# Altium integrated library Altium_WCAP-CSGP (rev19a).IntLib: 938 symbols (part 2 of 16)
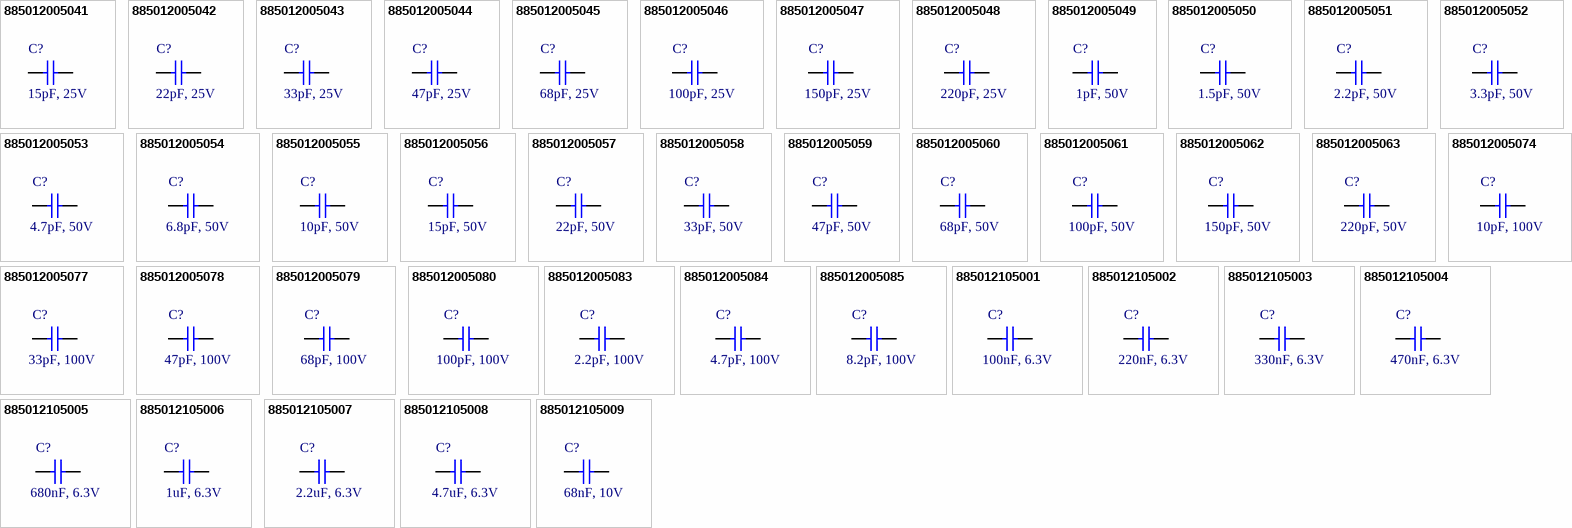
[diagram p28: symbols 885012005041 to 885012105009]

## 885012005074
designator C?, comment 10pF, 100V
WCAP-CSGP General Purpose Ceramic Capacitors, size 0402, 10pF, +/-5%, 100VDC; Part Number: 885012005074; Isolation Resistance: >=10GOhm; Ceramic Type: NP0; Dissipation Factor: Q>=400+20C; Technical Reference: NP00402100J100DFCT10000; ComponentLink1Description: Manufacturer; ComponentLink1URL: http://www.we-online.de; ComponentLink2Description: Datasheet; ComponentLink2URL: https://katalog.we-online.com/pbs/datasheet/885012005074.pdf; Operating Temperature: -55 to +125degC; Packaging: Tape and Reel; Publisher: Wurth Elektronik; Rated Voltage: 100VDC; Published Date: August 2019; Capacitance Tolerance: +/-5%; Height: 0.5mm +/-0.05mm; Mounting Technology: SMD; Size: 0402; Capacitance: 10pF
footprint WCAP-CSGP_0402
pins: 1, 2

## 885012005077
designator C?, comment 33pF, 100V
WCAP-CSGP General Purpose Ceramic Capacitors, size 0402, 33pF, +/-5%, 100VDC; Part Number: 885012005077; Isolation Resistance: >=10GOhm; Ceramic Type: NP0; Dissipation Factor: Q>=1000; Technical Reference: NP00402330J100DFCT10000; ComponentLink1Description: Manufacturer; ComponentLink1URL: http://www.we-online.de; ComponentLink2Description: Datasheet; ComponentLink2URL: https://katalog.we-online.com/pbs/datasheet/885012005077.pdf; Operating Temperature: -55 to +125degC; Packaging: Tape and Reel; Publisher: Wurth Elektronik; Rated Voltage: 100VDC; Published Date: August 2019; Capacitance Tolerance: +/-5%; Height: 0.5mm +/-0.05mm; Mounting Technology: SMD; Size: 0402; Capacitance: 33pF
footprint WCAP-CSGP_0402
pins: 1, 2

## 885012005078
designator C?, comment 47pF, 100V
WCAP-CSGP General Purpose Ceramic Capacitors, size 0402, 47pF, +/-5%, 100VDC; Part Number: 885012005078; Isolation Resistance: >=10GOhm; Ceramic Type: NP0; Dissipation Factor: Q>=1000; Technical Reference: NP00402470J100DFCT10000; ComponentLink1Description: Manufacturer; ComponentLink1URL: http://www.we-online.de; ComponentLink2Description: Datasheet; ComponentLink2URL: https://katalog.we-online.com/pbs/datasheet/885012005078.pdf; Operating Temperature: -55 to +125degC; Packaging: Tape and Reel; Publisher: Wurth Elektronik; Rated Voltage: 100VDC; Published Date: August 2019; Capacitance Tolerance: +/-5%; Height: 0.5mm +/-0.05mm; Mounting Technology: SMD; Size: 0402; Capacitance: 47pF
footprint WCAP-CSGP_0402
pins: 1, 2

## 885012005079
designator C?, comment 68pF, 100V
WCAP-CSGP General Purpose Ceramic Capacitors, size 0402, 68pF, +/-5%, 100VDC; Part Number: 885012005079; Isolation Resistance: >=10GOhm; Ceramic Type: NP0; Dissipation Factor: Q>=1000; Technical Reference: NP00402680J100DFCT10000; ComponentLink1Description: Manufacturer; ComponentLink1URL: http://www.we-online.de; ComponentLink2Description: Datasheet; ComponentLink2URL: https://katalog.we-online.com/pbs/datasheet/885012005079.pdf; Operating Temperature: -55 to +125degC; Packaging: Tape and Reel; Publisher: Wurth Elektronik; Rated Voltage: 100VDC; Published Date: August 2019; Capacitance Tolerance: +/-5%; Height: 0.5mm +/-0.05mm; Mounting Technology: SMD; Size: 0402; Capacitance: 68pF
footprint WCAP-CSGP_0402
pins: 1, 2

## 885012005080
designator C?, comment 100pF, 100V
WCAP-CSGP General Purpose Ceramic Capacitors, size 0402, 100pF, +/-5%, 100VDC; Part Number: 885012005080; Isolation Resistance: >=10GOhm; Ceramic Type: NP0; Dissipation Factor: Q>=1000; Technical Reference: NP00402101J100DFCT10000; ComponentLink1Description: Manufacturer; ComponentLink1URL: http://www.we-online.de; ComponentLink2Description: Datasheet; ComponentLink2URL: https://katalog.we-online.com/pbs/datasheet/885012005080.pdf; Operating Temperature: -55 to +125degC; Packaging: Tape and Reel; Publisher: Wurth Elektronik; Rated Voltage: 100VDC; Published Date: August 2019; Capacitance Tolerance: +/-5%; Height: 0.5mm +/-0.05mm; Mounting Technology: SMD; Size: 0402; Capacitance: 100pF
footprint WCAP-CSGP_0402
pins: 1, 2

## 885012005083
designator C?, comment 2.2pF, 100V
WCAP-CSGP General Purpose Ceramic Capacitors, size 0402, 2.2pF, +/-0.25pF, 100VDC; Part Number: 885012005083; Isolation Resistance: >=10GOhm; Ceramic Type: NP0; Dissipation Factor: Q>=400+20C; Technical Reference: NP004022R2C100DFCT10000; ComponentLink1Description: Manufacturer; ComponentLink1URL: http://www.we-online.de; ComponentLink2Description: Datasheet; ComponentLink2URL: https://katalog.we-online.com/pbs/datasheet/885012005083.pdf; Operating Temperature: -55 to +125degC; Packaging: Tape and Reel; Publisher: Wurth Elektronik; Rated Voltage: 100VDC; Published Date: August 2019; Capacitance Tolerance: +/-0.25pF; Height: 0.5mm +/-0.05mm; Mounting Technology: SMD; Size: 0402; Capacitance: 2.2pF
footprint WCAP-CSGP_0402
pins: 1, 2

## 885012005084
designator C?, comment 4.7pF, 100V
WCAP-CSGP General Purpose Ceramic Capacitors, size 0402, 4.7pF, +/-0.25pF, 100VDC; Part Number: 885012005084; Isolation Resistance: >=10GOhm; Ceramic Type: NP0; Dissipation Factor: Q>=400+20C; Technical Reference: NP004024R7C100DFCT10000; ComponentLink1Description: Manufacturer; ComponentLink1URL: http://www.we-online.de; ComponentLink2Description: Datasheet; ComponentLink2URL: https://katalog.we-online.com/pbs/datasheet/885012005084.pdf; Operating Temperature: -55 to +125degC; Packaging: Tape and Reel; Publisher: Wurth Elektronik; Rated Voltage: 100VDC; Published Date: August 2019; Capacitance Tolerance: +/-0.25pF; Height: 0.5mm +/-0.05mm; Mounting Technology: SMD; Size: 0402; Capacitance: 4.7pF
footprint WCAP-CSGP_0402
pins: 1, 2

## 885012005085
designator C?, comment 8.2pF, 100V
WCAP-CSGP General Purpose Ceramic Capacitors, size 0402, 8.2pF, +/-0.5pF, 100VDC; Part Number: 885012005085; Isolation Resistance: >=10GOhm; Ceramic Type: NP0; Dissipation Factor: Q>=400+20C; Technical Reference: NP004028R2D100DFCT10000; ComponentLink1Description: Manufacturer; ComponentLink1URL: http://www.we-online.de; ComponentLink2Description: Datasheet; ComponentLink2URL: https://katalog.we-online.com/pbs/datasheet/885012005085.pdf; Operating Temperature: -55 to +125degC; Packaging: Tape and Reel; Publisher: Wurth Elektronik; Rated Voltage: 100VDC; Published Date: August 2019; Capacitance Tolerance: +/-0.5pF; Height: 0.5mm +/-0.05mm; Mounting Technology: SMD; Size: 0402; Capacitance: 8.2pF
footprint WCAP-CSGP_0402
pins: 1, 2

## 885012105001
designator C?, comment 100nF, 6.3V
WCAP-CSGP General Purpose Ceramic Capacitors, size 0402, 100nF, +/-20%, 6.3VDC; Part Number: 885012105001; Isolation Resistance: >=1GOhm; Ceramic Type: X5R; Technical Reference: X5R0402104M6R3DFCT10000; ComponentLink1Description: Manufacturer; ComponentLink1URL: http://www.we-online.de; ComponentLink2Description: Datasheet; ComponentLink2URL: https://katalog.we-online.com/pbs/datasheet/885012105001.pdf; Operating Temperature: -55 to +85degC; Packaging: Tape and Reel; Publisher: Wurth Elektronik; Rated Voltage: 6.3VDC; Published Date: August 2019; Capacitance Tolerance: +/-20%; Dissipation Factor: =<10%; Height: 0.5mm +/-0.05mm; Mounting Technology: SMD; Size: 0402; Capacitance: 100nF
footprint WCAP-CSGP_0402
pins: 1, 2

## 885012105002
designator C?, comment 220nF, 6.3V
WCAP-CSGP General Purpose Ceramic Capacitors, size 0402, 220nF, +/-20%, 6.3VDC; Part Number: 885012105002; Isolation Resistance: >=0.5GOhm; Ceramic Type: X5R; Technical Reference: X5R0402224M6R3DFCT10000; ComponentLink1Description: Manufacturer; ComponentLink1URL: http://www.we-online.de; ComponentLink2Description: Datasheet; ComponentLink2URL: https://katalog.we-online.com/pbs/datasheet/885012105002.pdf; Operating Temperature: -55 to +85degC; Packaging: Tape and Reel; Publisher: Wurth Elektronik; Rated Voltage: 6.3VDC; Published Date: August 2019; Capacitance Tolerance: +/-20%; Dissipation Factor: =<10%; Height: 0.5mm +/-0.05mm; Mounting Technology: SMD; Size: 0402; Capacitance: 220nF
footprint WCAP-CSGP_0402
pins: 1, 2

## 885012105003
designator C?, comment 330nF, 6.3V
WCAP-CSGP General Purpose Ceramic Capacitors, size 0402, 330nF, +/-20%, 6.3VDC; Part Number: 885012105003; Isolation Resistance: >=0.3GOhm; Ceramic Type: X5R; Technical Reference: X5R0402334M6R3DFCT10000; ComponentLink1Description: Manufacturer; ComponentLink1URL: http://www.we-online.de; ComponentLink2Description: Datasheet; ComponentLink2URL: https://katalog.we-online.com/pbs/datasheet/885012105003.pdf; Operating Temperature: -55 to +85degC; Packaging: Tape and Reel; Publisher: Wurth Elektronik; Rated Voltage: 6.3VDC; Published Date: August 2019; Capacitance Tolerance: +/-20%; Dissipation Factor: =<10%; Height: 0.5mm +/-0.05mm; Mounting Technology: SMD; Size: 0402; Capacitance: 330nF
footprint WCAP-CSGP_0402
pins: 1, 2

## 885012105004
designator C?, comment 470nF, 6.3V
WCAP-CSGP General Purpose Ceramic Capacitors, size 0402, 470nF, +/-20%, 6.3VDC; Part Number: 885012105004; Isolation Resistance: >=0.2GOhm; Ceramic Type: X5R; Technical Reference: X5R0402474M6R3DFCT10000; ComponentLink1Description: Manufacturer; ComponentLink1URL: http://www.we-online.de; ComponentLink2Description: Datasheet; ComponentLink2URL: https://katalog.we-online.com/pbs/datasheet/885012105004.pdf; Operating Temperature: -55 to +85degC; Packaging: Tape and Reel; Publisher: Wurth Elektronik; Rated Voltage: 6.3VDC; Published Date: August 2019; Capacitance Tolerance: +/-20%; Dissipation Factor: =<10%; Height: 0.5mm +/-0.05mm; Mounting Technology: SMD; Size: 0402; Capacitance: 470nF
footprint WCAP-CSGP_0402
pins: 1, 2

## 885012105005
designator C?, comment 680nF, 6.3V
WCAP-CSGP General Purpose Ceramic Capacitors, size 0402, 680nF, +/-20%, 6.3VDC; Part Number: 885012105005; Isolation Resistance: >=0.2GOhm; Ceramic Type: X5R; Technical Reference: X5R0402684M6R3DFCT10000; ComponentLink1Description: Manufacturer; ComponentLink1URL: http://www.we-online.de; ComponentLink2Description: Datasheet; ComponentLink2URL: https://katalog.we-online.com/pbs/datasheet/885012105005.pdf; Operating Temperature: -55 to +85degC; Packaging: Tape and Reel; Publisher: Wurth Elektronik; Rated Voltage: 6.3VDC; Published Date: August 2019; Capacitance Tolerance: +/-20%; Dissipation Factor: =<10%; Height: 0.5mm +/-0.05mm; Mounting Technology: SMD; Size: 0402; Capacitance: 680nF
footprint WCAP-CSGP_0402
pins: 1, 2

## 885012105006
designator C?, comment 1uF, 6.3V
WCAP-CSGP General Purpose Ceramic Capacitors, size 0402, 1uF, +/-20%, 6.3VDC; Part Number: 885012105006; Isolation Resistance: >=0.1GOhm; Ceramic Type: X5R; Technical Reference: X5R0402105M6R3DFCT10000; ComponentLink1Description: Manufacturer; ComponentLink1URL: http://www.we-online.de; ComponentLink2Description: Datasheet; ComponentLink2URL: https://katalog.we-online.com/pbs/datasheet/885012105006.pdf; Operating Temperature: -55 to +85degC; Packaging: Tape and Reel; Publisher: Wurth Elektronik; Rated Voltage: 6.3VDC; Published Date: August 2019; Capacitance Tolerance: +/-20%; Dissipation Factor: =<15%; Height: 0.5mm +/-0.05mm; Mounting Technology: SMD; Size: 0402; Capacitance: 1uF
footprint WCAP-CSGP_0402
pins: 1, 2

## 885012105007
designator C?, comment 2.2uF, 6.3V
WCAP-CSGP General Purpose Ceramic Capacitors, size 0402, 2.2uF, +/-20%, 6.3VDC; Part Number: 885012105007; Isolation Resistance: >=0.05GOhm; Ceramic Type: X5R; Technical Reference: X5R0402225M6R3DFCT10000; ComponentLink1Description: Manufacturer; ComponentLink1URL: http://www.we-online.de; ComponentLink2Description: Datasheet; ComponentLink2URL: https://katalog.we-online.com/pbs/datasheet/885012105007.pdf; Operating Temperature: -55 to +85degC; Packaging: Tape and Reel; Publisher: Wurth Elektronik; Rated Voltage: 6.3VDC; Published Date: August 2019; Capacitance Tolerance: +/-20%; Dissipation Factor: =<10%; Height: 0.5mm +/-0.05mm; Mounting Technology: SMD; Size: 0402; Capacitance: 2.2uF
footprint WCAP-CSGP_0402
pins: 1, 2

## 885012105008
designator C?, comment 4.7uF, 6.3V
WCAP-CSGP General Purpose Ceramic Capacitors, size 0402, 4.7uF, +/-20%, 6.3VDC; Part Number: 885012105008; Isolation Resistance: >=0.02GOhm; Ceramic Type: X5R; Technical Reference: X5R0402475M6R3DFCT10000; ComponentLink1Description: Manufacturer; ComponentLink1URL: http://www.we-online.de; ComponentLink2Description: Datasheet; ComponentLink2URL: https://katalog.we-online.com/pbs/datasheet/885012105008.pdf; Operating Temperature: -55 to +85degC; Packaging: Tape and Reel; Publisher: Wurth Elektronik; Rated Voltage: 6.3VDC; Published Date: August 2019; Capacitance Tolerance: +/-20%; Dissipation Factor: =<10%; Height: 0.5mm +0.15/-0.05mm; Mounting Technology: SMD; Size: 0402; Capacitance: 4.7uF
footprint WCAP-CSGP_0402
pins: 1, 2

## 885012105009
designator C?, comment 68nF, 10V
WCAP-CSGP General Purpose Ceramic Capacitors, size 0402, 68nF, +/-20%, 10VDC; Part Number: 885012105009; Isolation Resistance: >=7.4GOhm; Ceramic Type: X5R; Technical Reference: X5R0402683M010DFCT10000; ComponentLink1Description: Manufacturer; ComponentLink1URL: http://www.we-online.de; ComponentLink2Description: Datasheet; ComponentLink2URL: https://katalog.we-online.com/pbs/datasheet/885012105009.pdf; Operating Temperature: -55 to +85degC; Packaging: Tape and Reel; Publisher: Wurth Elektronik; Rated Voltage: 10VDC; Published Date: August 2019; Capacitance Tolerance: +/-20%; Dissipation Factor: =<5%; Height: 0.5mm +/-0.05mm; Mounting Technology: SMD; Size: 0402; Capacitance: 68nF
footprint WCAP-CSGP_0402
pins: 1, 2

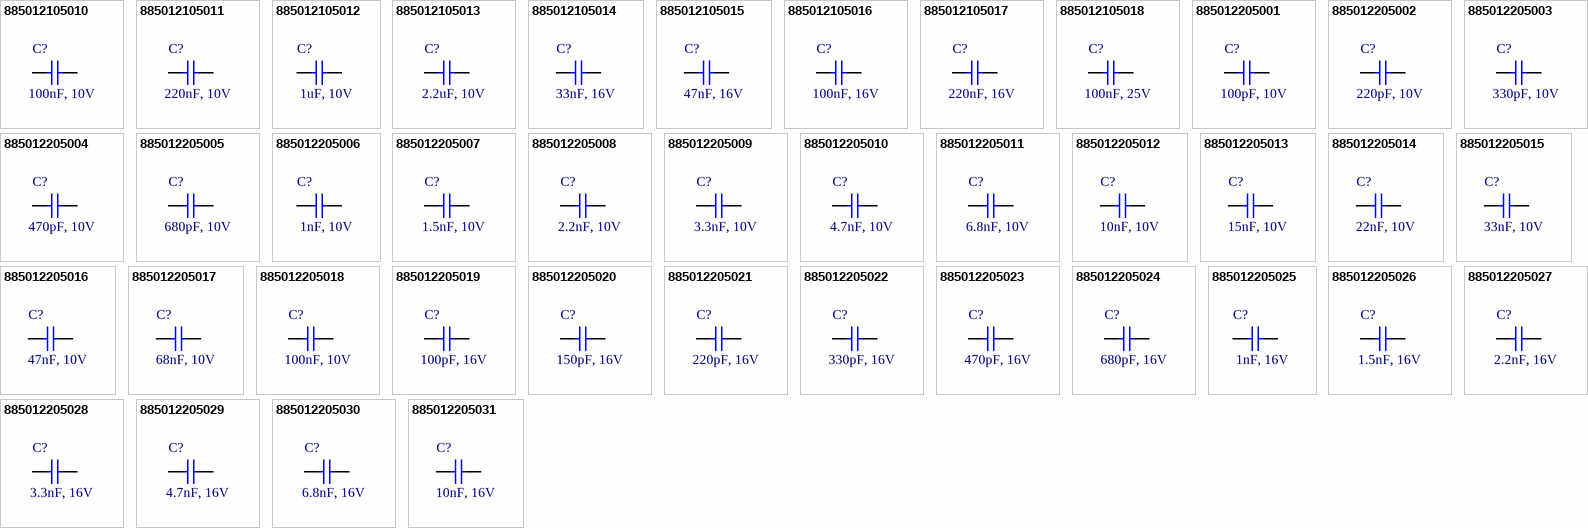
[diagram p2: symbols 885012105010 to 885012205031]

## 885012105010
designator C?, comment 100nF, 10V
WCAP-CSGP General Purpose Ceramic Capacitors, size 0402, 100nF, +/-20%, 10VDC; Part Number: 885012105010; Isolation Resistance: >=5GOhm; Ceramic Type: X5R; Technical Reference: X5R0402104M010DFCT10000; ComponentLink1Description: Manufacturer; ComponentLink1URL: http://www.we-online.de; ComponentLink2Description: Datasheet; ComponentLink2URL: https://katalog.we-online.com/pbs/datasheet/885012105010.pdf; Operating Temperature: -55 to +85degC; Packaging: Tape and Reel; Publisher: Wurth Elektronik; Rated Voltage: 10VDC; Published Date: August 2019; Capacitance Tolerance: +/-20%; Dissipation Factor: =<5%; Height: 0.5mm +/-0.05mm; Mounting Technology: SMD; Size: 0402; Capacitance: 100nF
footprint WCAP-CSGP_0402
pins: 1, 2

## 885012105011
designator C?, comment 220nF, 10V
WCAP-CSGP General Purpose Ceramic Capacitors, size 0402, 220nF, +/-20%, 10VDC; Part Number: 885012105011; Isolation Resistance: >=2.3GOhm; Ceramic Type: X5R; Technical Reference: X5R0402224M010DFCT10000; ComponentLink1Description: Manufacturer; ComponentLink1URL: http://www.we-online.de; ComponentLink2Description: Datasheet; ComponentLink2URL: https://katalog.we-online.com/pbs/datasheet/885012105011.pdf; Operating Temperature: -55 to +85degC; Packaging: Tape and Reel; Publisher: Wurth Elektronik; Rated Voltage: 10VDC; Published Date: August 2019; Capacitance Tolerance: +/-20%; Dissipation Factor: =<5%; Height: 0.5mm +/-0.05mm; Mounting Technology: SMD; Size: 0402; Capacitance: 220nF
footprint WCAP-CSGP_0402
pins: 1, 2

## 885012105012
designator C?, comment 1uF, 10V
WCAP-CSGP General Purpose Ceramic Capacitors, size 0402, 1uF, +/-20%, 10VDC; Part Number: 885012105012; Isolation Resistance: >=0.05GOhm; Ceramic Type: X5R; Technical Reference: X5R0402105M010DFCT10000; ComponentLink1Description: Manufacturer; ComponentLink1URL: http://www.we-online.de; ComponentLink2Description: Datasheet; ComponentLink2URL: https://katalog.we-online.com/pbs/datasheet/885012105012.pdf; Operating Temperature: -55 to +85degC; Packaging: Tape and Reel; Publisher: Wurth Elektronik; Rated Voltage: 10VDC; Published Date: August 2019; Capacitance Tolerance: +/-20%; Dissipation Factor: =<15%; Height: 0.5mm +/-0.05mm; Mounting Technology: SMD; Size: 0402; Capacitance: 1uF
footprint WCAP-CSGP_0402
pins: 1, 2

## 885012105013
designator C?, comment 2.2uF, 10V
WCAP-CSGP General Purpose Ceramic Capacitors, size 0402, 2.2uF, +/-20%, 10VDC; Part Number: 885012105013; Isolation Resistance: >=0.05GOhm; Ceramic Type: X5R; Technical Reference: X5R0402225M010DFCT10000; ComponentLink1Description: Manufacturer; ComponentLink1URL: http://www.we-online.de; ComponentLink2Description: Datasheet; ComponentLink2URL: https://katalog.we-online.com/pbs/datasheet/885012105013.pdf; Operating Temperature: -55 to +85degC; Packaging: Tape and Reel; Publisher: Wurth Elektronik; Rated Voltage: 10VDC; Published Date: August 2019; Capacitance Tolerance: +/-20%; Dissipation Factor: =<10%; Height: 0.5mm +/-0.05mm; Mounting Technology: SMD; Size: 0402; Capacitance: 2.2uF
footprint WCAP-CSGP_0402
pins: 1, 2

## 885012105014
designator C?, comment 33nF, 16V
WCAP-CSGP General Purpose Ceramic Capacitors, size 0402, 33nF, +/-20%, 16VDC; Part Number: 885012105014; Isolation Resistance: >=10GOhm; Ceramic Type: X5R; Technical Reference: X5R0402333M016DFCT10000; ComponentLink1Description: Manufacturer; ComponentLink1URL: http://www.we-online.de; ComponentLink2Description: Datasheet; ComponentLink2URL: https://katalog.we-online.com/pbs/datasheet/885012105014.pdf; Operating Temperature: -55 to +85degC; Packaging: Tape and Reel; Publisher: Wurth Elektronik; Rated Voltage: 16VDC; Published Date: August 2019; Capacitance Tolerance: +/-20%; Dissipation Factor: =<5%; Height: 0.5mm +/-0.05mm; Mounting Technology: SMD; Size: 0402; Capacitance: 33nF
footprint WCAP-CSGP_0402
pins: 1, 2

## 885012105015
designator C?, comment 47nF, 16V
WCAP-CSGP General Purpose Ceramic Capacitors, size 0402, 47nF, +/-20%, 16VDC; Part Number: 885012105015; Isolation Resistance: >=10GOhm; Ceramic Type: X5R; Technical Reference: X5R0402473M016DFCT10000; ComponentLink1Description: Manufacturer; ComponentLink1URL: http://www.we-online.de; ComponentLink2Description: Datasheet; ComponentLink2URL: https://katalog.we-online.com/pbs/datasheet/885012105015.pdf; Operating Temperature: -55 to +85degC; Packaging: Tape and Reel; Publisher: Wurth Elektronik; Rated Voltage: 16VDC; Published Date: August 2019; Capacitance Tolerance: +/-20%; Dissipation Factor: =<5%; Height: 0.5mm +/-0.05mm; Mounting Technology: SMD; Size: 0402; Capacitance: 47nF
footprint WCAP-CSGP_0402
pins: 1, 2

## 885012105016
designator C?, comment 100nF, 16V
WCAP-CSGP General Purpose Ceramic Capacitors, size 0402, 100nF, +/-20%, 16VDC; Part Number: 885012105016; Isolation Resistance: >=5GOhm; Ceramic Type: X5R; Technical Reference: X5R0402104M016DFCT10000; ComponentLink1Description: Manufacturer; ComponentLink1URL: http://www.we-online.de; ComponentLink2Description: Datasheet; ComponentLink2URL: https://katalog.we-online.com/pbs/datasheet/885012105016.pdf; Operating Temperature: -55 to +85degC; Packaging: Tape and Reel; Publisher: Wurth Elektronik; Rated Voltage: 16VDC; Published Date: August 2019; Capacitance Tolerance: +/-20%; Dissipation Factor: =<5%; Height: 0.5mm +/-0.05mm; Mounting Technology: SMD; Size: 0402; Capacitance: 100nF
footprint WCAP-CSGP_0402
pins: 1, 2

## 885012105017
designator C?, comment 220nF, 16V
WCAP-CSGP General Purpose Ceramic Capacitors, size 0402, 220nF, +/-20%, 16VDC; Part Number: 885012105017; Isolation Resistance: >=0.5GOhm; Ceramic Type: X5R; Technical Reference: X5R0402224M016DFCT10000; ComponentLink1Description: Manufacturer; ComponentLink1URL: http://www.we-online.de; ComponentLink2Description: Datasheet; ComponentLink2URL: https://katalog.we-online.com/pbs/datasheet/885012105017.pdf; Operating Temperature: -55 to +85degC; Packaging: Tape and Reel; Publisher: Wurth Elektronik; Rated Voltage: 16VDC; Published Date: August 2019; Capacitance Tolerance: +/-20%; Dissipation Factor: =<10%; Height: 0.5mm +/-0.05mm; Mounting Technology: SMD; Size: 0402; Capacitance: 220nF
footprint WCAP-CSGP_0402
pins: 1, 2

## 885012105018
designator C?, comment 100nF, 25V
WCAP-CSGP General Purpose Ceramic Capacitors, size 0402, 100nF, +/-20%, 25VDC; Part Number: 885012105018; Isolation Resistance: >=5GOhm; Ceramic Type: X5R; Technical Reference: X5R0402104M025DFCT10000; ComponentLink1Description: Manufacturer; ComponentLink1URL: http://www.we-online.de; ComponentLink2Description: Datasheet; ComponentLink2URL: https://katalog.we-online.com/pbs/datasheet/885012105018.pdf; Operating Temperature: -55 to +85degC; Packaging: Tape and Reel; Publisher: Wurth Elektronik; Rated Voltage: 25VDC; Published Date: August 2019; Capacitance Tolerance: +/-20%; Dissipation Factor: =<10%; Height: 0.5mm +/-0.05mm; Mounting Technology: SMD; Size: 0402; Capacitance: 100nF
footprint WCAP-CSGP_0402
pins: 1, 2

## 885012205001
designator C?, comment 100pF, 10V
WCAP-CSGP General Purpose Ceramic Capacitors, size 0402, 100pF, +/-10%, 10VDC; Part Number: 885012205001; Isolation Resistance: >=10GOhm; Ceramic Type: X7R; Technical Reference: X7R0402101K010DFCT10000; ComponentLink1Description: Manufacturer; ComponentLink1URL: http://www.we-online.de; ComponentLink2Description: Datasheet; ComponentLink2URL: https://katalog.we-online.com/pbs/datasheet/885012205001.pdf; Operating Temperature: -55 to +125degC; Packaging: Tape and Reel; Publisher: Wurth Elektronik; Rated Voltage: 10VDC; Published Date: August 2019; Capacitance Tolerance: +/-10%; Dissipation Factor: =<5%; Height: 0.5mm +/-0.05mm; Mounting Technology: SMD; Size: 0402; Capacitance: 100pF
footprint WCAP-CSGP_0402
pins: 1, 2

## 885012205002
designator C?, comment 220pF, 10V
WCAP-CSGP General Purpose Ceramic Capacitors, size 0402, 220pF, +/-10%, 10VDC; Part Number: 885012205002; Isolation Resistance: >=10GOhm; Ceramic Type: X7R; Technical Reference: X7R0402221K010DFCT10000; ComponentLink1Description: Manufacturer; ComponentLink1URL: http://www.we-online.de; ComponentLink2Description: Datasheet; ComponentLink2URL: https://katalog.we-online.com/pbs/datasheet/885012205002.pdf; Operating Temperature: -55 to +125degC; Packaging: Tape and Reel; Publisher: Wurth Elektronik; Rated Voltage: 10VDC; Published Date: August 2019; Capacitance Tolerance: +/-10%; Dissipation Factor: =<5%; Height: 0.5mm +/-0.05mm; Mounting Technology: SMD; Size: 0402; Capacitance: 220pF
footprint WCAP-CSGP_0402
pins: 1, 2

## 885012205003
designator C?, comment 330pF, 10V
WCAP-CSGP General Purpose Ceramic Capacitors, size 0402, 330pF, +/-10%, 10VDC; Part Number: 885012205003; Isolation Resistance: >=10GOhm; Ceramic Type: X7R; Technical Reference: X7R0402331K010DFCT10000; ComponentLink1Description: Manufacturer; ComponentLink1URL: http://www.we-online.de; ComponentLink2Description: Datasheet; ComponentLink2URL: https://katalog.we-online.com/pbs/datasheet/885012205003.pdf; Operating Temperature: -55 to +125degC; Packaging: Tape and Reel; Publisher: Wurth Elektronik; Rated Voltage: 10VDC; Published Date: August 2019; Capacitance Tolerance: +/-10%; Dissipation Factor: =<5%; Height: 0.5mm +/-0.05mm; Mounting Technology: SMD; Size: 0402; Capacitance: 330pF
footprint WCAP-CSGP_0402
pins: 1, 2

## 885012205004
designator C?, comment 470pF, 10V
WCAP-CSGP General Purpose Ceramic Capacitors, size 0402, 470pF, +/-10%, 10VDC; Part Number: 885012205004; Isolation Resistance: >=10GOhm; Ceramic Type: X7R; Technical Reference: X7R0402471K010DFCT10000; ComponentLink1Description: Manufacturer; ComponentLink1URL: http://www.we-online.de; ComponentLink2Description: Datasheet; ComponentLink2URL: https://katalog.we-online.com/pbs/datasheet/885012205004.pdf; Operating Temperature: -55 to +125degC; Packaging: Tape and Reel; Publisher: Wurth Elektronik; Rated Voltage: 10VDC; Published Date: August 2019; Capacitance Tolerance: +/-10%; Dissipation Factor: =<5%; Height: 0.5mm +/-0.05mm; Mounting Technology: SMD; Size: 0402; Capacitance: 470pF
footprint WCAP-CSGP_0402
pins: 1, 2

## 885012205005
designator C?, comment 680pF, 10V
WCAP-CSGP General Purpose Ceramic Capacitors, size 0402, 680pF, +/-10%, 10VDC; Part Number: 885012205005; Isolation Resistance: >=10GOhm; Ceramic Type: X7R; Technical Reference: X7R0402681K010DFCT10000; ComponentLink1Description: Manufacturer; ComponentLink1URL: http://www.we-online.de; ComponentLink2Description: Datasheet; ComponentLink2URL: https://katalog.we-online.com/pbs/datasheet/885012205005.pdf; Operating Temperature: -55 to +125degC; Packaging: Tape and Reel; Publisher: Wurth Elektronik; Rated Voltage: 10VDC; Published Date: August 2019; Capacitance Tolerance: +/-10%; Dissipation Factor: =<5%; Height: 0.5mm +/-0.05mm; Mounting Technology: SMD; Size: 0402; Capacitance: 680pF
footprint WCAP-CSGP_0402
pins: 1, 2

## 885012205006
designator C?, comment 1nF, 10V
WCAP-CSGP General Purpose Ceramic Capacitors, size 0402, 1nF, +/-10%, 10VDC; Part Number: 885012205006; Isolation Resistance: >=10GOhm; Ceramic Type: X7R; Technical Reference: X7R0402102K010DFCT10000; ComponentLink1Description: Manufacturer; ComponentLink1URL: http://www.we-online.de; ComponentLink2Description: Datasheet; ComponentLink2URL: https://katalog.we-online.com/pbs/datasheet/885012205006.pdf; Operating Temperature: -55 to +125degC; Packaging: Tape and Reel; Publisher: Wurth Elektronik; Rated Voltage: 10VDC; Published Date: August 2019; Capacitance Tolerance: +/-10%; Dissipation Factor: =<5%; Height: 0.5mm +/-0.05mm; Mounting Technology: SMD; Size: 0402; Capacitance: 1nF
footprint WCAP-CSGP_0402
pins: 1, 2

## 885012205007
designator C?, comment 1.5nF, 10V
WCAP-CSGP General Purpose Ceramic Capacitors, size 0402, 1.5nF, +/-10%, 10VDC; Part Number: 885012205007; Isolation Resistance: >=10GOhm; Ceramic Type: X7R; Technical Reference: X7R0402152K010DFCT10000; ComponentLink1Description: Manufacturer; ComponentLink1URL: http://www.we-online.de; ComponentLink2Description: Datasheet; ComponentLink2URL: https://katalog.we-online.com/pbs/datasheet/885012205007.pdf; Operating Temperature: -55 to +125degC; Packaging: Tape and Reel; Publisher: Wurth Elektronik; Rated Voltage: 10VDC; Published Date: August 2019; Capacitance Tolerance: +/-10%; Dissipation Factor: =<5%; Height: 0.5mm +/-0.05mm; Mounting Technology: SMD; Size: 0402; Capacitance: 1.5nF
footprint WCAP-CSGP_0402
pins: 1, 2

## 885012205008
designator C?, comment 2.2nF, 10V
WCAP-CSGP General Purpose Ceramic Capacitors, size 0402, 2.2nF, +/-10%, 10VDC; Part Number: 885012205008; Isolation Resistance: >=10GOhm; Ceramic Type: X7R; Technical Reference: X7R0402222K010DFCT10000; ComponentLink1Description: Manufacturer; ComponentLink1URL: http://www.we-online.de; ComponentLink2Description: Datasheet; ComponentLink2URL: https://katalog.we-online.com/pbs/datasheet/885012205008.pdf; Operating Temperature: -55 to +125degC; Packaging: Tape and Reel; Publisher: Wurth Elektronik; Rated Voltage: 10VDC; Published Date: August 2019; Capacitance Tolerance: +/-10%; Dissipation Factor: =<5%; Height: 0.5mm +/-0.05mm; Mounting Technology: SMD; Size: 0402; Capacitance: 2.2nF
footprint WCAP-CSGP_0402
pins: 1, 2

## 885012205009
designator C?, comment 3.3nF, 10V
WCAP-CSGP General Purpose Ceramic Capacitors, size 0402, 3.3nF, +/-10%, 10VDC; Part Number: 885012205009; Isolation Resistance: >=10GOhm; Ceramic Type: X7R; Technical Reference: X7R0402332K010DFCT10000; ComponentLink1Description: Manufacturer; ComponentLink1URL: http://www.we-online.de; ComponentLink2Description: Datasheet; ComponentLink2URL: https://katalog.we-online.com/pbs/datasheet/885012205009.pdf; Operating Temperature: -55 to +125degC; Packaging: Tape and Reel; Publisher: Wurth Elektronik; Rated Voltage: 10VDC; Published Date: August 2019; Capacitance Tolerance: +/-10%; Dissipation Factor: =<5%; Height: 0.5mm +/-0.05mm; Mounting Technology: SMD; Size: 0402; Capacitance: 3.3nF
footprint WCAP-CSGP_0402
pins: 1, 2

## 885012205010
designator C?, comment 4.7nF, 10V
WCAP-CSGP General Purpose Ceramic Capacitors, size 0402, 4.7nF, +/-10%, 10VDC; Part Number: 885012205010; Isolation Resistance: >=10GOhm; Ceramic Type: X7R; Technical Reference: X7R0402472K010DFCT10000; ComponentLink1Description: Manufacturer; ComponentLink1URL: http://www.we-online.de; ComponentLink2Description: Datasheet; ComponentLink2URL: https://katalog.we-online.com/pbs/datasheet/885012205010.pdf; Operating Temperature: -55 to +125degC; Packaging: Tape and Reel; Publisher: Wurth Elektronik; Rated Voltage: 10VDC; Published Date: August 2019; Capacitance Tolerance: +/-10%; Dissipation Factor: =<5%; Height: 0.5mm +/-0.05mm; Mounting Technology: SMD; Size: 0402; Capacitance: 4.7nF
footprint WCAP-CSGP_0402
pins: 1, 2

## 885012205011
designator C?, comment 6.8nF, 10V
WCAP-CSGP General Purpose Ceramic Capacitors, size 0402, 6.8nF, +/-10%, 10VDC; Part Number: 885012205011; Isolation Resistance: >=10GOhm; Ceramic Type: X7R; Technical Reference: X7R0402682K010DFCT10000; ComponentLink1Description: Manufacturer; ComponentLink1URL: http://www.we-online.de; ComponentLink2Description: Datasheet; ComponentLink2URL: https://katalog.we-online.com/pbs/datasheet/885012205011.pdf; Operating Temperature: -55 to +125degC; Packaging: Tape and Reel; Publisher: Wurth Elektronik; Rated Voltage: 10VDC; Published Date: August 2019; Capacitance Tolerance: +/-10%; Dissipation Factor: =<5%; Height: 0.5mm +/-0.05mm; Mounting Technology: SMD; Size: 0402; Capacitance: 6.8nF
footprint WCAP-CSGP_0402
pins: 1, 2

## 885012205012
designator C?, comment 10nF, 10V
WCAP-CSGP General Purpose Ceramic Capacitors, size 0402, 10nF, +/-10%, 10VDC; Part Number: 885012205012; Isolation Resistance: >=10GOhm; Ceramic Type: X7R; Technical Reference: X7R0402103K010DFCT10000; ComponentLink1Description: Manufacturer; ComponentLink1URL: http://www.we-online.de; ComponentLink2Description: Datasheet; ComponentLink2URL: https://katalog.we-online.com/pbs/datasheet/885012205012.pdf; Operating Temperature: -55 to +125degC; Packaging: Tape and Reel; Publisher: Wurth Elektronik; Rated Voltage: 10VDC; Published Date: August 2019; Capacitance Tolerance: +/-10%; Dissipation Factor: =<5%; Height: 0.5mm +/-0.05mm; Mounting Technology: SMD; Size: 0402; Capacitance: 10nF
footprint WCAP-CSGP_0402
pins: 1, 2

## 885012205013
designator C?, comment 15nF, 10V
WCAP-CSGP General Purpose Ceramic Capacitors, size 0402, 15nF, +/-10%, 10VDC; Part Number: 885012205013; Isolation Resistance: >=10GOhm; Ceramic Type: X7R; Technical Reference: X7R0402153K010DFCT10000; ComponentLink1Description: Manufacturer; ComponentLink1URL: http://www.we-online.de; ComponentLink2Description: Datasheet; ComponentLink2URL: https://katalog.we-online.com/pbs/datasheet/885012205013.pdf; Operating Temperature: -55 to +125degC; Packaging: Tape and Reel; Publisher: Wurth Elektronik; Rated Voltage: 10VDC; Published Date: August 2019; Capacitance Tolerance: +/-10%; Dissipation Factor: =<5%; Height: 0.5mm +/-0.05mm; Mounting Technology: SMD; Size: 0402; Capacitance: 15nF
footprint WCAP-CSGP_0402
pins: 1, 2

## 885012205014
designator C?, comment 22nF, 10V
WCAP-CSGP General Purpose Ceramic Capacitors, size 0402, 22nF, +/-10%, 10VDC; Part Number: 885012205014; Isolation Resistance: >=10GOhm; Ceramic Type: X7R; Technical Reference: X7R0402223K010DFCT10000; ComponentLink1Description: Manufacturer; ComponentLink1URL: http://www.we-online.de; ComponentLink2Description: Datasheet; ComponentLink2URL: https://katalog.we-online.com/pbs/datasheet/885012205014.pdf; Operating Temperature: -55 to +125degC; Packaging: Tape and Reel; Publisher: Wurth Elektronik; Rated Voltage: 10VDC; Published Date: August 2019; Capacitance Tolerance: +/-10%; Dissipation Factor: =<5%; Height: 0.5mm +/-0.05mm; Mounting Technology: SMD; Size: 0402; Capacitance: 22nF
footprint WCAP-CSGP_0402
pins: 1, 2

## 885012205015
designator C?, comment 33nF, 10V
WCAP-CSGP General Purpose Ceramic Capacitors, size 0402, 33nF, +/-10%, 10VDC; Part Number: 885012205015; Isolation Resistance: >=10GOhm; Ceramic Type: X7R; Technical Reference: X7R0402333K010DFCT10000; ComponentLink1Description: Manufacturer; ComponentLink1URL: http://www.we-online.de; ComponentLink2Description: Datasheet; ComponentLink2URL: https://katalog.we-online.com/pbs/datasheet/885012205015.pdf; Operating Temperature: -55 to +125degC; Packaging: Tape and Reel; Publisher: Wurth Elektronik; Rated Voltage: 10VDC; Published Date: August 2019; Capacitance Tolerance: +/-10%; Dissipation Factor: =<5%; Height: 0.5mm +/-0.05mm; Mounting Technology: SMD; Size: 0402; Capacitance: 33nF
footprint WCAP-CSGP_0402
pins: 1, 2

## 885012205016
designator C?, comment 47nF, 10V
WCAP-CSGP General Purpose Ceramic Capacitors, size 0402, 47nF, +/-10%, 10VDC; Part Number: 885012205016; Isolation Resistance: >=10GOhm; Ceramic Type: X7R; Technical Reference: X7R0402473K010DFCT10000; ComponentLink1Description: Manufacturer; ComponentLink1URL: http://www.we-online.de; ComponentLink2Description: Datasheet; ComponentLink2URL: https://katalog.we-online.com/pbs/datasheet/885012205016.pdf; Operating Temperature: -55 to +125degC; Packaging: Tape and Reel; Publisher: Wurth Elektronik; Rated Voltage: 10VDC; Published Date: August 2019; Capacitance Tolerance: +/-10%; Dissipation Factor: =<5%; Height: 0.5mm +/-0.05mm; Mounting Technology: SMD; Size: 0402; Capacitance: 47nF
footprint WCAP-CSGP_0402
pins: 1, 2

## 885012205017
designator C?, comment 68nF, 10V
WCAP-CSGP General Purpose Ceramic Capacitors, size 0402, 68nF, +/-10%, 10VDC; Part Number: 885012205017; Isolation Resistance: >=7.4GOhm; Ceramic Type: X7R; Technical Reference: X7R0402683K010DFCT10000; ComponentLink1Description: Manufacturer; ComponentLink1URL: http://www.we-online.de; ComponentLink2Description: Datasheet; ComponentLink2URL: https://katalog.we-online.com/pbs/datasheet/885012205017.pdf; Operating Temperature: -55 to +125degC; Packaging: Tape and Reel; Publisher: Wurth Elektronik; Rated Voltage: 10VDC; Published Date: August 2019; Capacitance Tolerance: +/-10%; Dissipation Factor: =<5%; Height: 0.5mm +/-0.05mm; Mounting Technology: SMD; Size: 0402; Capacitance: 68nF
footprint WCAP-CSGP_0402
pins: 1, 2

## 885012205018
designator C?, comment 100nF, 10V
WCAP-CSGP General Purpose Ceramic Capacitors, size 0402, 100nF, +/-10%, 10VDC; Part Number: 885012205018; Isolation Resistance: >=5GOhm; Ceramic Type: X7R; Technical Reference: X7R0402104K010DFCT10000; ComponentLink1Description: Manufacturer; ComponentLink1URL: http://www.we-online.de; ComponentLink2Description: Datasheet; ComponentLink2URL: https://katalog.we-online.com/pbs/datasheet/885012205018.pdf; Operating Temperature: -55 to +125degC; Packaging: Tape and Reel; Publisher: Wurth Elektronik; Rated Voltage: 10VDC; Published Date: August 2019; Capacitance Tolerance: +/-10%; Dissipation Factor: =<5%; Height: 0.5mm +/-0.05mm; Mounting Technology: SMD; Size: 0402; Capacitance: 100nF
footprint WCAP-CSGP_0402
pins: 1, 2

## 885012205019
designator C?, comment 100pF, 16V
WCAP-CSGP General Purpose Ceramic Capacitors, size 0402, 100pF, +/-10%, 16VDC; Part Number: 885012205019; Isolation Resistance: >=10GOhm; Ceramic Type: X7R; Technical Reference: X7R0402101K016DFCT10000; ComponentLink1Description: Manufacturer; ComponentLink1URL: http://www.we-online.de; ComponentLink2Description: Datasheet; ComponentLink2URL: https://katalog.we-online.com/pbs/datasheet/885012205019.pdf; Operating Temperature: -55 to +125degC; Packaging: Tape and Reel; Publisher: Wurth Elektronik; Rated Voltage: 16VDC; Published Date: August 2019; Capacitance Tolerance: +/-10%; Dissipation Factor: =<3.5%; Height: 0.5mm +/-0.05mm; Mounting Technology: SMD; Size: 0402; Capacitance: 100pF
footprint WCAP-CSGP_0402
pins: 1, 2

## 885012205020
designator C?, comment 150pF, 16V
WCAP-CSGP General Purpose Ceramic Capacitors, size 0402, 150pF, +/-10%, 16VDC; Part Number: 885012205020; Isolation Resistance: >=10GOhm; Ceramic Type: X7R; Technical Reference: X7R0402151K016DFCT10000; ComponentLink1Description: Manufacturer; ComponentLink1URL: http://www.we-online.de; ComponentLink2Description: Datasheet; ComponentLink2URL: https://katalog.we-online.com/pbs/datasheet/885012205020.pdf; Operating Temperature: -55 to +125degC; Packaging: Tape and Reel; Publisher: Wurth Elektronik; Rated Voltage: 16VDC; Published Date: August 2019; Capacitance Tolerance: +/-10%; Dissipation Factor: =<3.5%; Height: 0.5mm +/-0.05mm; Mounting Technology: SMD; Size: 0402; Capacitance: 150pF
footprint WCAP-CSGP_0402
pins: 1, 2

## 885012205021
designator C?, comment 220pF, 16V
WCAP-CSGP General Purpose Ceramic Capacitors, size 0402, 220pF, +/-10%, 16VDC; Part Number: 885012205021; Isolation Resistance: >=10GOhm; Ceramic Type: X7R; Technical Reference: X7R0402221K016DFCT10000; ComponentLink1Description: Manufacturer; ComponentLink1URL: http://www.we-online.de; ComponentLink2Description: Datasheet; ComponentLink2URL: https://katalog.we-online.com/pbs/datasheet/885012205021.pdf; Operating Temperature: -55 to +125degC; Packaging: Tape and Reel; Publisher: Wurth Elektronik; Rated Voltage: 16VDC; Published Date: August 2019; Capacitance Tolerance: +/-10%; Dissipation Factor: =<3.5%; Height: 0.5mm +/-0.05mm; Mounting Technology: SMD; Size: 0402; Capacitance: 220pF
footprint WCAP-CSGP_0402
pins: 1, 2

## 885012205022
designator C?, comment 330pF, 16V
WCAP-CSGP General Purpose Ceramic Capacitors, size 0402, 330pF, +/-10%, 16VDC; Part Number: 885012205022; Isolation Resistance: >=10GOhm; Ceramic Type: X7R; Technical Reference: X7R0402331K016DFCT10000; ComponentLink1Description: Manufacturer; ComponentLink1URL: http://www.we-online.de; ComponentLink2Description: Datasheet; ComponentLink2URL: https://katalog.we-online.com/pbs/datasheet/885012205022.pdf; Operating Temperature: -55 to +125degC; Packaging: Tape and Reel; Publisher: Wurth Elektronik; Rated Voltage: 16VDC; Published Date: August 2019; Capacitance Tolerance: +/-10%; Dissipation Factor: =<3.5%; Height: 0.5mm +/-0.05mm; Mounting Technology: SMD; Size: 0402; Capacitance: 330pF
footprint WCAP-CSGP_0402
pins: 1, 2

## 885012205023
designator C?, comment 470pF, 16V
WCAP-CSGP General Purpose Ceramic Capacitors, size 0402, 470pF, +/-10%, 16VDC; Part Number: 885012205023; Isolation Resistance: >=10GOhm; Ceramic Type: X7R; Technical Reference: X7R0402471K016DFCT10000; ComponentLink1Description: Manufacturer; ComponentLink1URL: http://www.we-online.de; ComponentLink2Description: Datasheet; ComponentLink2URL: https://katalog.we-online.com/pbs/datasheet/885012205023.pdf; Operating Temperature: -55 to +125degC; Packaging: Tape and Reel; Publisher: Wurth Elektronik; Rated Voltage: 16VDC; Published Date: August 2019; Capacitance Tolerance: +/-10%; Dissipation Factor: =<3.5%; Height: 0.5mm +/-0.05mm; Mounting Technology: SMD; Size: 0402; Capacitance: 470pF
footprint WCAP-CSGP_0402
pins: 1, 2

## 885012205024
designator C?, comment 680pF, 16V
WCAP-CSGP General Purpose Ceramic Capacitors, size 0402, 680pF, +/-10%, 16VDC; Part Number: 885012205024; Isolation Resistance: >=10GOhm; Ceramic Type: X7R; Technical Reference: X7R0402681K016DFCT10000; ComponentLink1Description: Manufacturer; ComponentLink1URL: http://www.we-online.de; ComponentLink2Description: Datasheet; ComponentLink2URL: https://katalog.we-online.com/pbs/datasheet/885012205024.pdf; Operating Temperature: -55 to +125degC; Packaging: Tape and Reel; Publisher: Wurth Elektronik; Rated Voltage: 16VDC; Published Date: August 2019; Capacitance Tolerance: +/-10%; Dissipation Factor: =<3.5%; Height: 0.5mm +/-0.05mm; Mounting Technology: SMD; Size: 0402; Capacitance: 680pF
footprint WCAP-CSGP_0402
pins: 1, 2

## 885012205025
designator C?, comment 1nF, 16V
WCAP-CSGP General Purpose Ceramic Capacitors, size 0402, 1nF, +/-10%, 16VDC; Part Number: 885012205025; Isolation Resistance: >=10GOhm; Ceramic Type: X7R; Technical Reference: X7R0402102K016DFCT10000; ComponentLink1Description: Manufacturer; ComponentLink1URL: http://www.we-online.de; ComponentLink2Description: Datasheet; ComponentLink2URL: https://katalog.we-online.com/pbs/datasheet/885012205025.pdf; Operating Temperature: -55 to +125degC; Packaging: Tape and Reel; Publisher: Wurth Elektronik; Rated Voltage: 16VDC; Published Date: August 2019; Capacitance Tolerance: +/-10%; Dissipation Factor: =<3.5%; Height: 0.5mm +/-0.05mm; Mounting Technology: SMD; Size: 0402; Capacitance: 1nF
footprint WCAP-CSGP_0402
pins: 1, 2

## 885012205026
designator C?, comment 1.5nF, 16V
WCAP-CSGP General Purpose Ceramic Capacitors, size 0402, 1.5nF, +/-10%, 16VDC; Part Number: 885012205026; Isolation Resistance: >=10GOhm; Ceramic Type: X7R; Technical Reference: X7R0402152K016DFCT10000; ComponentLink1Description: Manufacturer; ComponentLink1URL: http://www.we-online.de; ComponentLink2Description: Datasheet; ComponentLink2URL: https://katalog.we-online.com/pbs/datasheet/885012205026.pdf; Operating Temperature: -55 to +125degC; Packaging: Tape and Reel; Publisher: Wurth Elektronik; Rated Voltage: 16VDC; Published Date: August 2019; Capacitance Tolerance: +/-10%; Dissipation Factor: =<3.5%; Height: 0.5mm +/-0.05mm; Mounting Technology: SMD; Size: 0402; Capacitance: 1.5nF
footprint WCAP-CSGP_0402
pins: 1, 2

## 885012205027
designator C?, comment 2.2nF, 16V
WCAP-CSGP General Purpose Ceramic Capacitors, size 0402, 2.2nF, +/-10%, 16VDC; Part Number: 885012205027; Isolation Resistance: >=10GOhm; Ceramic Type: X7R; Technical Reference: X7R0402222K016DFCT10000; ComponentLink1Description: Manufacturer; ComponentLink1URL: http://www.we-online.de; ComponentLink2Description: Datasheet; ComponentLink2URL: https://katalog.we-online.com/pbs/datasheet/885012205027.pdf; Operating Temperature: -55 to +125degC; Packaging: Tape and Reel; Publisher: Wurth Elektronik; Rated Voltage: 16VDC; Published Date: August 2019; Capacitance Tolerance: +/-10%; Dissipation Factor: =<3.5%; Height: 0.5mm +/-0.05mm; Mounting Technology: SMD; Size: 0402; Capacitance: 2.2nF
footprint WCAP-CSGP_0402
pins: 1, 2

## 885012205028
designator C?, comment 3.3nF, 16V
WCAP-CSGP General Purpose Ceramic Capacitors, size 0402, 3.3nF, +/-10%, 16VDC; Part Number: 885012205028; Isolation Resistance: >=10GOhm; Ceramic Type: X7R; Technical Reference: X7R0402332K016DFCT10000; ComponentLink1Description: Manufacturer; ComponentLink1URL: http://www.we-online.de; ComponentLink2Description: Datasheet; ComponentLink2URL: https://katalog.we-online.com/pbs/datasheet/885012205028.pdf; Operating Temperature: -55 to +125degC; Packaging: Tape and Reel; Publisher: Wurth Elektronik; Rated Voltage: 16VDC; Published Date: August 2019; Capacitance Tolerance: +/-10%; Dissipation Factor: =<3.5%; Height: 0.5mm +/-0.05mm; Mounting Technology: SMD; Size: 0402; Capacitance: 3.3nF
footprint WCAP-CSGP_0402
pins: 1, 2

## 885012205029
designator C?, comment 4.7nF, 16V
WCAP-CSGP General Purpose Ceramic Capacitors, size 0402, 4.7nF, +/-10%, 16VDC; Part Number: 885012205029; Isolation Resistance: >=10GOhm; Ceramic Type: X7R; Technical Reference: X7R0402472K016DFCT10000; ComponentLink1Description: Manufacturer; ComponentLink1URL: http://www.we-online.de; ComponentLink2Description: Datasheet; ComponentLink2URL: https://katalog.we-online.com/pbs/datasheet/885012205029.pdf; Operating Temperature: -55 to +125degC; Packaging: Tape and Reel; Publisher: Wurth Elektronik; Rated Voltage: 16VDC; Published Date: August 2019; Capacitance Tolerance: +/-10%; Dissipation Factor: =<3.5%; Height: 0.5mm +/-0.05mm; Mounting Technology: SMD; Size: 0402; Capacitance: 4.7nF
footprint WCAP-CSGP_0402
pins: 1, 2

## 885012205030
designator C?, comment 6.8nF, 16V
WCAP-CSGP General Purpose Ceramic Capacitors, size 0402, 6.8nF, +/-10%, 16VDC; Part Number: 885012205030; Isolation Resistance: >=10GOhm; Ceramic Type: X7R; Technical Reference: X7R0402682K016DFCT10000; ComponentLink1Description: Manufacturer; ComponentLink1URL: http://www.we-online.de; ComponentLink2Description: Datasheet; ComponentLink2URL: https://katalog.we-online.com/pbs/datasheet/885012205030.pdf; Operating Temperature: -55 to +125degC; Packaging: Tape and Reel; Publisher: Wurth Elektronik; Rated Voltage: 16VDC; Published Date: August 2019; Capacitance Tolerance: +/-10%; Dissipation Factor: =<3.5%; Height: 0.5mm +/-0.05mm; Mounting Technology: SMD; Size: 0402; Capacitance: 6.8nF
footprint WCAP-CSGP_0402
pins: 1, 2

## 885012205031
designator C?, comment 10nF, 16V
WCAP-CSGP General Purpose Ceramic Capacitors, size 0402, 10nF, +/-10%, 16VDC; Part Number: 885012205031; Isolation Resistance: >=10GOhm; Ceramic Type: X7R; Technical Reference: X7R0402103K016DFCT10000; ComponentLink1Description: Manufacturer; ComponentLink1URL: http://www.we-online.de; ComponentLink2Description: Datasheet; ComponentLink2URL: https://katalog.we-online.com/pbs/datasheet/885012205031.pdf; Operating Temperature: -55 to +125degC; Packaging: Tape and Reel; Publisher: Wurth Elektronik; Rated Voltage: 16VDC; Published Date: August 2019; Capacitance Tolerance: +/-10%; Dissipation Factor: =<3.5%; Height: 0.5mm +/-0.05mm; Mounting Technology: SMD; Size: 0402; Capacitance: 10nF
footprint WCAP-CSGP_0402
pins: 1, 2

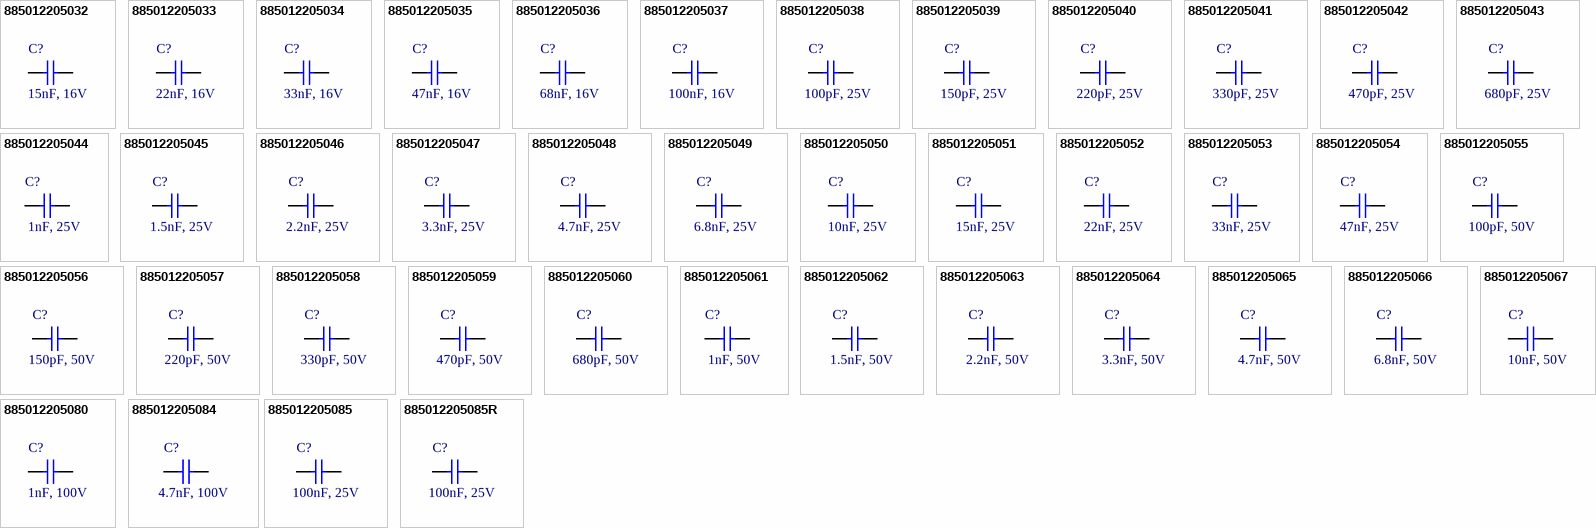
[diagram p3: symbols 885012205032 to 885012205085R]

## 885012205032
designator C?, comment 15nF, 16V
WCAP-CSGP General Purpose Ceramic Capacitors, size 0402, 15nF, +/-10%, 16VDC; Part Number: 885012205032; Isolation Resistance: >=10GOhm; Ceramic Type: X7R; Technical Reference: X7R0402153K016DFCT10000; ComponentLink1Description: Manufacturer; ComponentLink1URL: http://www.we-online.de; ComponentLink2Description: Datasheet; ComponentLink2URL: https://katalog.we-online.com/pbs/datasheet/885012205032.pdf; Operating Temperature: -55 to +125degC; Packaging: Tape and Reel; Publisher: Wurth Elektronik; Rated Voltage: 16VDC; Published Date: August 2019; Capacitance Tolerance: +/-10%; Dissipation Factor: =<3.5%; Height: 0.5mm +/-0.05mm; Mounting Technology: SMD; Size: 0402; Capacitance: 15nF
footprint WCAP-CSGP_0402
pins: 1, 2

## 885012205033
designator C?, comment 22nF, 16V
WCAP-CSGP General Purpose Ceramic Capacitors, size 0402, 22nF, +/-10%, 16VDC; Part Number: 885012205033; Isolation Resistance: >=10GOhm; Ceramic Type: X7R; Technical Reference: X7R0402223K016DFCT10000; ComponentLink1Description: Manufacturer; ComponentLink1URL: http://www.we-online.de; ComponentLink2Description: Datasheet; ComponentLink2URL: https://katalog.we-online.com/pbs/datasheet/885012205033.pdf; Operating Temperature: -55 to +125degC; Packaging: Tape and Reel; Publisher: Wurth Elektronik; Rated Voltage: 16VDC; Published Date: August 2019; Capacitance Tolerance: +/-10%; Dissipation Factor: =<3.5%; Height: 0.5mm +/-0.05mm; Mounting Technology: SMD; Size: 0402; Capacitance: 22nF
footprint WCAP-CSGP_0402
pins: 1, 2

## 885012205034
designator C?, comment 33nF, 16V
WCAP-CSGP General Purpose Ceramic Capacitors, size 0402, 33nF, +/-10%, 16VDC; Part Number: 885012205034; Isolation Resistance: >=10GOhm; Ceramic Type: X7R; Technical Reference: X7R0402333K016DFCT10000; ComponentLink1Description: Manufacturer; ComponentLink1URL: http://www.we-online.de; ComponentLink2Description: Datasheet; ComponentLink2URL: https://katalog.we-online.com/pbs/datasheet/885012205034.pdf; Operating Temperature: -55 to +125degC; Packaging: Tape and Reel; Publisher: Wurth Elektronik; Rated Voltage: 16VDC; Published Date: August 2019; Capacitance Tolerance: +/-10%; Dissipation Factor: =<5%; Height: 0.5mm +/-0.05mm; Mounting Technology: SMD; Size: 0402; Capacitance: 33nF
footprint WCAP-CSGP_0402
pins: 1, 2

## 885012205035
designator C?, comment 47nF, 16V
WCAP-CSGP General Purpose Ceramic Capacitors, size 0402, 47nF, +/-10%, 16VDC; Part Number: 885012205035; Isolation Resistance: >=10GOhm; Ceramic Type: X7R; Technical Reference: X7R0402473K016DFCT10000; ComponentLink1Description: Manufacturer; ComponentLink1URL: http://www.we-online.de; ComponentLink2Description: Datasheet; ComponentLink2URL: https://katalog.we-online.com/pbs/datasheet/885012205035.pdf; Operating Temperature: -55 to +125degC; Packaging: Tape and Reel; Publisher: Wurth Elektronik; Rated Voltage: 16VDC; Published Date: August 2019; Capacitance Tolerance: +/-10%; Dissipation Factor: =<5%; Height: 0.5mm +/-0.05mm; Mounting Technology: SMD; Size: 0402; Capacitance: 47nF
footprint WCAP-CSGP_0402
pins: 1, 2

## 885012205036
designator C?, comment 68nF, 16V
WCAP-CSGP General Purpose Ceramic Capacitors, size 0402, 68nF, +/-10%, 16VDC; Part Number: 885012205036; Isolation Resistance: >=7.4GOhm; Ceramic Type: X7R; Technical Reference: X7R0402683K016DFCT10000; ComponentLink1Description: Manufacturer; ComponentLink1URL: http://www.we-online.de; ComponentLink2Description: Datasheet; ComponentLink2URL: https://katalog.we-online.com/pbs/datasheet/885012205036.pdf; Operating Temperature: -55 to +125degC; Packaging: Tape and Reel; Publisher: Wurth Elektronik; Rated Voltage: 16VDC; Published Date: August 2019; Capacitance Tolerance: +/-10%; Dissipation Factor: =<5%; Height: 0.5mm +/-0.05mm; Mounting Technology: SMD; Size: 0402; Capacitance: 68nF
footprint WCAP-CSGP_0402
pins: 1, 2

## 885012205037
designator C?, comment 100nF, 16V
WCAP-CSGP General Purpose Ceramic Capacitors, size 0402, 100nF, +/-10%, 16VDC; Part Number: 885012205037; Isolation Resistance: >=5GOhm; Ceramic Type: X7R; Technical Reference: X7R0402104K016DFCT10000; ComponentLink1Description: Manufacturer; ComponentLink1URL: http://www.we-online.de; ComponentLink2Description: Datasheet; ComponentLink2URL: https://katalog.we-online.com/pbs/datasheet/885012205037.pdf; Operating Temperature: -55 to +125degC; Packaging: Tape and Reel; Publisher: Wurth Elektronik; Rated Voltage: 16VDC; Published Date: August 2019; Capacitance Tolerance: +/-10%; Dissipation Factor: =<5%; Height: 0.5mm +/-0.05mm; Mounting Technology: SMD; Size: 0402; Capacitance: 100nF
footprint WCAP-CSGP_0402
pins: 1, 2